# Altium schematic symbol library Basic.SchLib: 16 symbols
Pins are listed as number, name and electrical type; pins without a type are passive.

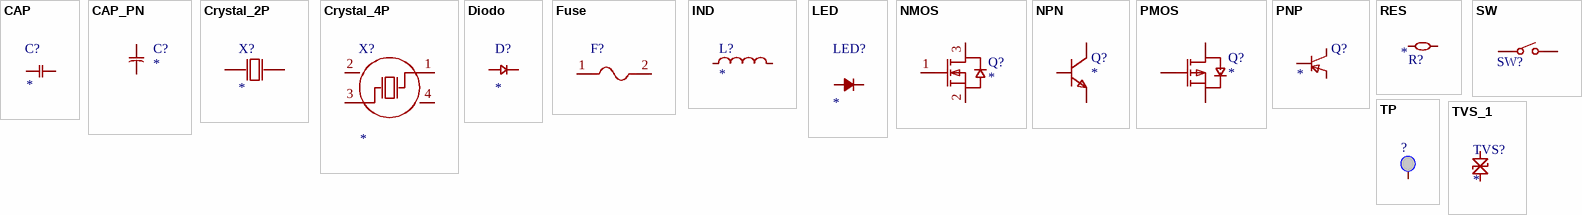
[diagram p0: symbols CAP to TVS_1]

## CAP
designator C?
无极性电容; Package: *; Product ID: *; Renmark: *; Model: *; Brand: *; Value: *
footprint C0201 (贴片电容_C0201)
footprint C0402 (贴片电容_C0402)
footprint C0603 (贴片电容_C0603)
footprint C0805 (贴片电容_C0805)
footprint C1206 (贴片电容_C1206)
pins: 1, 2

## CAP_PN
designator C?
有极性电容; Brand: *; Package: *; Product ID: *; Remark: *; Model: *; Value: *
footprint CAP_SMD_BD8.0-L8.3-W8.3-FD
footprint CAP_SMD_BD6.3-L6.6-W6.6-LS7.8-FD
pins: 1, 2

## Crystal_2P
designator X?
Brand: *; Package: *; Product ID: *; Module: *; Remark: *; Value: *
footprint OSC_SMD_3215-2P
pins: 1 OSC1, 2 OSC2

## Crystal_4P
designator X?
Brand: *; Package: *; Product ID: *; Module: *; Remark: *; Value: *
footprint OSC_SMD_3225-4P
pins: 1 OSC1, 2 GND, 3 OSC2, 4 GND

## Diodo
designator D?
普通二极管; Brand: *; Package: *; Product ID: *; Remark: *; Model: *
footprint DIODO_SMA
footprint DIODO_SOD-123FL
footprint DIODO_SOD-323
pins: 1, 2

## Fuse
designator F?
保险丝; Symbol: SMD0805-050-6
footprint F0402
footprint F0603
footprint F0805
pins: 1, 2

## IND
designator L?
通用电感; Brand: *; Package: *; Product ID: *; Remark: *; Model: *; Value: *
footprint L0201
footprint L0402
footprint L0603
footprint L0805
footprint L1206
footprint IND_SMD_L7.8-W7.0-A
footprint IND_SMD_L3.0-W3.0
footprint IND-SMD_L7.3-W6.6_MHCI06030
pins: 1, 2

## LED
designator LED?
通用LED; Brand: *; Package: *; Product ID: *; Remark: *; Model: *; Color: *
footprint LED_0201 (贴片LED_0201)
footprint LED_0402 (贴片LED_0402)
footprint LED_0603 (贴片LED_0603)
footprint LED_0805 (贴片LED_0805)
footprint LED_1206 (贴片LED_1206)
pins: 1 A, 2 K

## NMOS
designator Q?
NMOS管; Brand: *; Package: *; Product ID: *; Remark: *; Model: *
footprint NMOS_SOT23-3 (NMOS管_SOT-23-3)
footprint TO-252-2_L6.6-W6.1-P4.57-LS10.1-TL-CW
pins: 1 G, 2 S, 3 D

## NPN
designator Q?
NPN三极管; Brand': *; Package: *; Product ID: *; Remark: *; Model: *
footprint NPN_SOT23-3 (贴片NPN三极管_SOT-23-3)
pins: 1 B, 2 E, 3 C

## PMOS
designator Q?
PMOS管; Brand: *; Package: *; Product ID: *; Remark: *; Model: *
footprint PMOS_SOT23-3 (PMOS管_SOT-23-3)
pins: 1 G, 2 S, 3 D

## PNP
designator Q?
PNP三极管; Brand: *; Package: *; Product ID: *; Remark: *; Model: *
footprint PNP_SOT23-3 (PNP三极管_SOT-23-3)
pins: 1 B, 2 E, 3 C

## RES
designator R?
通用电阻; Brand: *; Package: *; Product ID: *; Remark: *; Model: *; Value: *
footprint R0201 (贴片电阻_R0201)
footprint R0402 (贴片电阻_R0402)
footprint R0603 (贴片电阻_R0602)
footprint R0805 (贴片电阻_R0805)
footprint R1206 (贴片电阻_R1206)
footprint R3920
pins: 1, 2

## SW
designator SW?  (value not drawn)
按键开关; Brand: *; Package: *; Product ID: *; Remark: *; Model: *
footprint SW-SMD_L3.9-W3.0-P4.45
footprint SW-SMD_L6.0-W3.3-LS8.0
pins: 1, 2

## TP
designator ?  (value not drawn)
测试点
footprint TP_2mm
footprint TP_2.5MM
footprint TP_3MM
footprint TP_3.5MM
footprint TP_4MM
footprint TP_5MM
pins: 1

## TVS_1
designator TVS?
单端TVS; Brand: *; Package: *; Remark: *; Model: *; Product ID: *
footprint Diodo_SOD-123FL
pins: 1, 2